# Altium footprint library bch-lib.PcbLib: 86 footprints (part 6 of 6)
Each footprint in its own frame and in the unit in brackets; x right, y up, seen from the top. Pads: shape width x height; smd on the part's side, far side on the other; paste and mask are expansions set on the pad; w line width, h text height; cw(c..) or ccw(c..) is an arc to the next point about the centre after c.
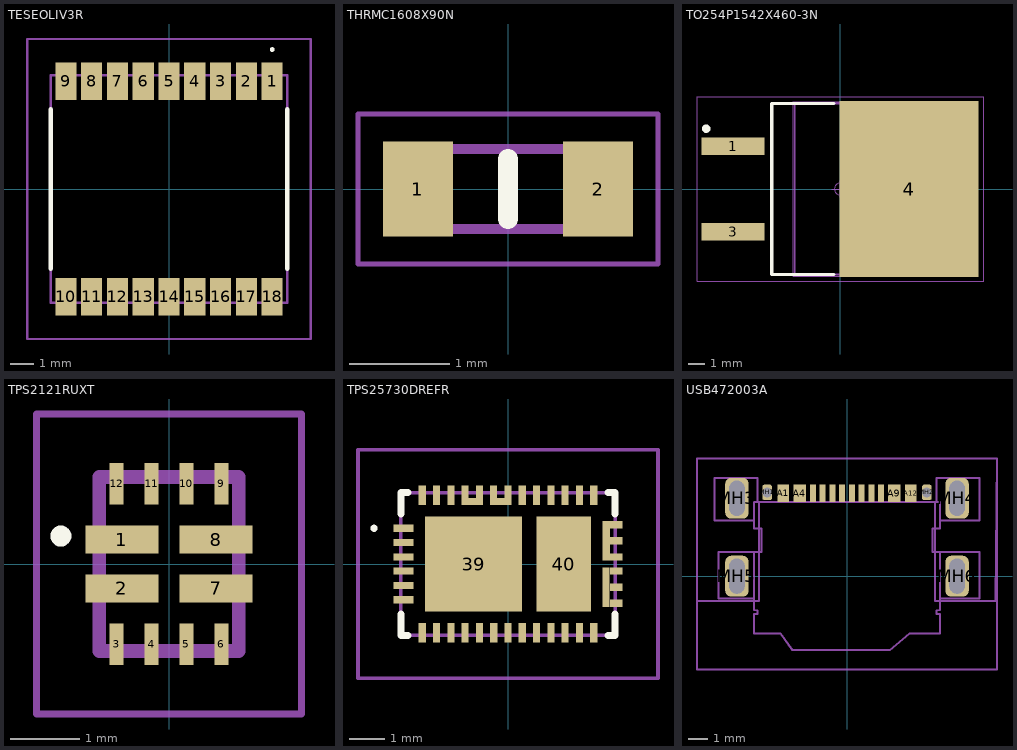
[diagram p5: the footprints below, top view; thin cyan lines are the x and y axes]

## TESEOLIV3R [mm]
pads (18):
  rect 0.9x1.6 smd: 1(4.4,4.6) 2(3.3,4.6) 3(2.2,4.6) 4(1.1,4.6) 5(0,4.6) 6(-1.1,4.6) 7(-2.2,4.6) 8(-3.3,4.6) 9(-4.4,4.6) 10(-4.4,-4.6) 11(-3.3,-4.6) 12(-2.2,-4.6) 13(-1.1,-4.6) 14(0,-4.6) 15(1.1,-4.6) 16(2.2,-4.6) 17(3.3,-4.6) 18(4.4,-4.6)
Top Overlay:
  lines w0.1: 4.4,5.9 cw(c4.4,5.95) 4.4,6 cw(c4.4,5.95) 4.4,5.9
  lines w0.2: -5.05,-3.4 -5.05,3.4 ; 5.05,-3.4 5.05,3.4
Mechanical 13:
  lines w0.1: -5.05,-4.85 -5.05,4.85 5.05,4.85 5.05,-4.85 -5.05,-4.85
Mechanical 15:
  lines w0.1: -6.05,-6.4 -6.05,6.4 6.05,6.4 6.05,-6.4 -6.05,-6.4
3D body "TESEO-LIV3R.stp": height 2.31, standoff 0, extent -5.05,-4.85 5.05,4.85

## THRMC1608X90N [mm]
pads (2):
  rect 0.7x0.95 smd: 1(-0.9,0) 2(0.9,0)
Top Overlay:
  lines w0.2: 0,-0.3 0,0.3
Mechanical 13:
  lines w0.1: -0.8,-0.4 0.8,-0.4 0.8,0.4 -0.8,0.4 -0.8,-0.4
Mechanical 15:
  lines w0.05: -1.5,-0.75 1.5,-0.75 1.5,0.75 -1.5,0.75 -1.5,-0.75
3D body "NTCGS163JF103FT7.stp": height 0.9, standoff 0, extent -0.8,-0.4 0.8,0.4

## TO254P1542X460-3N [mm]
pads (3):
  rect 3.75x1.05 smd: 1(-6.4,2.54) 3(-6.4,-2.54)
  rect 8.3x10.5 smd: 4(4.1,0)
Top Overlay:
  circle w0.25: c-8,3.6 r0.125
  lines w0.2: -0.4,-5.1 -4.1,-5.1 -4.1,5.1 -0.4,5.1
Mechanical 13:
  lines w0.1: 6.442,-5.1 6.861,-5.1 7.712,-4.157 7.712,4.157 6.861,5.1 6.442,5.1 ; 6.442,-5.1 6.442,5.1 ; 6.442,-5.1 -2.708,-5.1 -2.708,5.1 6.442,5.1
Mechanical 15:
  circle w0.05: c0,0 r0.35
  lines w0.001: -2.808,-5.2 -2.808,5.2 6.542,5.2 6.542,-5.2 -2.808,-5.2
  lines w0.05: -0.5,0 0.5,0 ; 0,-0.5 0,0.5 ; -8.55,-5.5 -8.55,5.5 8.55,5.5 8.55,-5.5 -8.55,-5.5
3D body "L7812ACD2T-TR.stp": height 5.16, standoff 2.83, extent -5.78,-3.25 4.18,3.25

## TPS2121RUXT [mm]
pads (12):
  rect 1.05x0.4 smd: 1(-0.675,0.35) 2(-0.675,-0.35) 7(0.675,-0.35) 8(0.675,0.35)
  rect 0.2x0.6 smd: 3(-0.75,-1.15) 4(-0.25,-1.15) 5(0.25,-1.15) 6(0.75,-1.15) 9(0.75,1.15) 10(0.25,1.15) 11(-0.25,1.15) 12(-0.75,1.15)
Top Overlay:
  lines w0.2: -1.6,0.4 ccw(c-1.55,0.4) -1.5,0.4 ccw(c-1.55,0.4) -1.6,0.4
Mechanical 13:
  lines w0.2: -1,-1.25 -1,1.25 1,1.25 1,-1.25 -1,-1.25
Mechanical 15:
  lines w0.1: -1.9,-2.15 -1.9,2.15 1.9,2.15 1.9,-2.15 -1.9,-2.15
3D body "TPS2121RUXT.stp": height 1, standoff 0, extent -1.05,-1.3 1.05,1.3

## TPS25730DREFR [mm]
pads (44):
  rect 0.55x0.2 smd: 1(-2.925,1) 2(-2.925,0.6) 3(-2.925,0.2) 4(-2.925,-0.2) 5(-2.925,-0.6) 6(-2.925,-1)
  rect 0.2x0.55 smd: 7(-2.4,-1.925) 8(-2,-1.925) 9(-1.6,-1.925) 10(-1.2,-1.925) 11(-0.8,-1.925) 12(-0.4,-1.925) 13(0,-1.925) 14(0.4,-1.925) 15(0.8,-1.925) 16(1.2,-1.925) 17(1.6,-1.925) 18(2,-1.925) 19(2.4,-1.925) 26(2.4,1.925) 27(2,1.925) 28(1.6,1.925) 29(1.2,1.925) 30(0.8,1.925) 31(0.4,1.925) 36(-1.6,1.925) 37(-2,1.925) 38(-2.4,1.925)
  rect 0.35x0.2 smd: 20(3.025,-1.1) 21(3.025,-0.65) 22(3.025,-0.2) 23(3.025,0.2) 24(3.025,0.65) 25(3.025,1.1)
  rect 0.2x0.35 smd: 32(-0.001,2.025) 33(-0.401,2.025) 34(-0.801,2.025) 35(-1.201,2.025)
  rect 2.72x2.65 smd: 39(-0.965,0)
  rect 1.53x2.65 smd: 40(1.56,0)
  rect 0.2x1.1 smd: 41(2.749,-0.65) 42(2.75,0.65)
  rect 0.6x0.2 smd: 43(-0.201,1.75) 44(-1.001,1.75)
Top Overlay:
  lines w0.1: -3.8,1 ccw(c-3.75,1) -3.7,1 ccw(c-3.75,1) -3.8,1
  lines w0.2: -3,-1.4 -3,-2 -2.8,-2 ; -3,1.4 -3,2 -2.8,2 ; 2.8,-2 3,-2 3,-1.4 ; 2.8,2 3,2 3,1.4
Mechanical 13:
  lines w0.1: -3,-2 -3,2 3,2 3,-2 -3,-2
Mechanical 15:
  lines w0.1: -4.2,-3.2 -4.2,3.2 4.2,3.2 4.2,-3.2 -4.2,-3.2
3D body "TPS25730DREFR.stp": height 0.8, standoff 0, extent -3,-2 3,2

## USB472003A [mm]
pads (18):
  rect 0.6x0.9 smd: A1(-3.28,4.25) A12(3.28,4.25)
  rect 0.65x0.9 smd: A4(-2.43,4.25) A9(2.43,4.25)
  rect 0.3x0.9 smd: A5(-1.25,4.25) A6(-0.25,4.25) A7(0.25,4.25) A8(1.25,4.25) B5(1.75,4.25) B6(0.75,4.25) B7(-0.75,4.25) B8(-1.75,4.25)
  rrect50% 0.5x0.8 hole 0.5: MH1(-4.1,4.3) MH2(4.1,4.3)
  rrect50% 1.2x2.1 hole 0.8 slot 1.8 at 90 deg: MH3(-5.65,4) MH4(5.65,4) MH5(-5.65,0) MH6(5.65,0)
Mechanical 13:
  lines w0.1: -4.77,-1.15 -6.6,-1.15 -6.6,1.25 -4.77,1.25 ; -4.77,2.85 -6.8,2.85 -6.8,5.05 -4.6,5.05 -4.6,3.8 ; 4.6,3.8 4.6,5.05 6.8,5.05 6.8,2.85 4.8,2.85 ; 4.77,-1.15 6.8,-1.15 6.8,1.25 4.77,1.25 ; -4.77,1.25 -4.4,1.25 -4.4,2.45 -4.77,2.45 -4.77,3.8 0,3.8 4.77,3.8 4.77,2.45 4.4,2.45 4.4,1.25 4.77,1.25 ; -4.77,1.25 -4.77,-1.75 -4.6,-1.75 -4.6,-1.95 -4.77,-1.95 -4.77,-2.95 -3.4,-2.95 -2.8,-3.8 2.2,-3.8 3.2,-2.95 4.77,-2.95 4.77,-1.95 4.6,-1.95 4.6,-1.75 4.77,-1.75 4.77,1.25
Mechanical 15:
  lines w0.1: -7.7,6.05 7.7,6.05 ; -7.7,6.05 -7.7,-4.8 7.7,-4.8 7.7,6.05 ; -7.7,6.05 -7.7,-1.28 -4.525,-1.28 -4.525,3.8 4.525,3.8 4.525,-1.28 7.62,-1.28 7.7,6.05 ; -7.7,6.05 7.7,6.05
3D body "USB4720-03-A.stp": height 2.22, standoff -1.52, extent -5.8,-2.93 5.8,4.67